# Altium schematic symbol library tm4cv006lib.SchLib: 203 symbols (part 2 of 5)
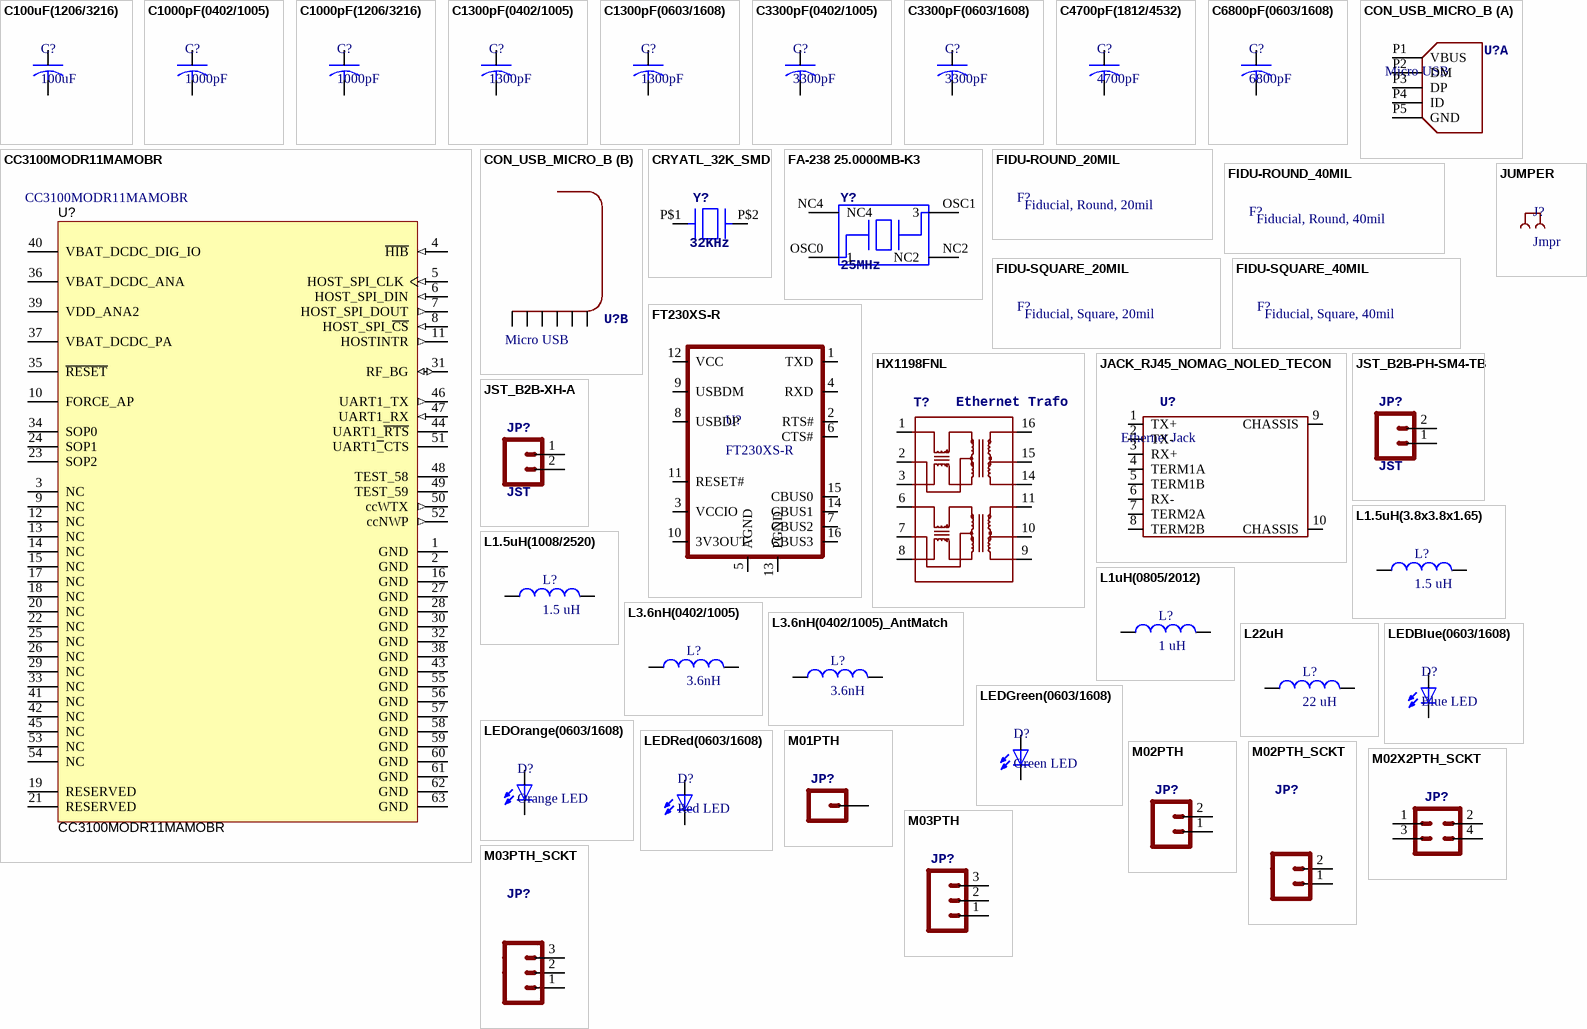
[diagram p6: symbols C100uF(1206/3216) to M03PTH_SCKT]

## C1000pF(1206/3216)
designator C?, comment 1000pF
1000pF Capacitor; Manufacturer: Johanson Dielectrics; Manufacturer Part Number: 202R18W102KV4E; Tolerance: 10 %; Type: High Voltage Capacitors; Voltage Rating DC: 2 kVDC; Class: 2; Dielectric: X7R; Supplier 1: Mouser; Supplier Part Number 1: 605-202R18W102KV4E; RoHS: RoHS Compliant; Category: Multilayer Ceramic Capacitors MLCC - SMD/SMT; Stock 1: 0; Pricing 1: 1=0.250, 10=0.088, 100=0.035, 1000=0.026, 3000=0.017, 9000=0.016, 24000=0.015, 99000=0.014 (USD); Capacitance: 1000 pF; Height: 1.27 mm; Length: 3.15 mm; Package / Case: 1206 (3216 metric); Packaging: Reel; Product: General Type MLCCs; Series: R18 High Voltage; Termination Style: SMD/SMT; Width: 1.6 mm; Brand: Johanson Dielectrics; Case Code - in: 1206; Case Code - mm: 3216; Maximum Operating Temperature: + 125 C; Minimum Operating Temperature: - 55 C; Standard Pack Qty: 3000; RoHS - Mouser: Y; Minimum Order Quantity: 1; Reeling: True; ComponentLink1URL: http://www.mouser.com/ds/2/611/JDI-High-Voltage-SMT-515373.pdf; ComponentLink1Description: http://www.mouser.com/ds/2/611/JDI-High-Voltage-SMT-515373.pdf
footprint C1206_3216 (Chip Capacitor, 2-Leads, Body 3.30x1.60mm, IPC Medium Density)
pins: 1, 2

## C1300pF(0402/1005)
designator C?, comment 1300pF
1300pF Capacitor; Manufacturer: Murata Electronics; Manufacturer Part Number: GRM1557U1A132JA01D; Tolerance: 5 %; Type: General Purpose MLCC; Voltage Rating DC: 10 VDC; Capacitance - nF: 1.3 nF; Capacitance - uF: 0.0013 uF; Dielectric: U2J; RoHS: RoHS Compliant; Category: Multilayer Ceramic Capacitors MLCC - SMD/SMT; Capacitance: 1300 pF; Height: 0.5 mm; Length: 1 mm; Package / Case: 0402 (1005 metric); Packaging: Reel; Product: General Type MLCCs; Series: GRM; Termination Style: SMD/SMT; Width: 0.5 mm; Brand: Murata Electronics; Case Code - in: 0402; Case Code - mm: 1005; Maximum Operating Temperature: + 125 C; Minimum Operating Temperature: - 55 C; Standard Pack Qty: 10000; RoHS - Mouser: Y; Minimum Order Quantity: 1; Reeling: True; ComponentLink1URL: http://www.mouser.com/ds/2/281/c02e-2905.pdf; ComponentLink1Description: http://www.mouser.com/ds/2/281/c02e-2905.pdf; Supplier 1: Mouser; Supplier Part Number 1: 81-GRM1557U1A132JA1D; Stock 1: 15573; Pricing 1: 1=0.170, 10=0.070, 100=0.048, 500=0.041, 1000=0.033, 2500=0.024, 10000=0.023, 20000=0.022, 50000=0.018 (USD)
footprint C0402_1005 (Chip Capacitor, 2-Leads, Body 1.00x0.50mm, IPC Medium Density)
pins: 1, 2

## C1300pF(0603/1608)
designator C?, comment 1300pF
1300pF Capacitor; Manufacturer: Murata Electronics; Manufacturer Part Number: GRM1885C1E132JA01D; Tolerance: 5 %; Type: General Purpose MLCC; Voltage Rating DC: 25 V; Dielectric: C0G (NP0); Supplier 1: Mouser; Supplier Part Number 1: 81-GRM1885C1E132JA1D; RoHS: RoHS Compliant; Category: Multilayer Ceramic Capacitors MLCC - SMD/SMT; Stock 1: 14377; Pricing 1: 1=0.120, 10=0.049, 100=0.029, 1000=0.024, 4000=0.019, 8000=0.016, 48000=0.012 (USD); Capacitance: 1300 pF; Height: 0.8 mm; Length: 1.6 mm; Package / Case: 0603 (1608 metric); Packaging: Reel; Product: General Type MLCCs; Series: GRM; Termination Style: SMD/SMT; Width: 0.8 mm; Brand: Murata Electronics; Case Code - in: 0603; Case Code - mm: 1608; Maximum Operating Temperature: + 125 C; Minimum Operating Temperature: - 55 C; Standard Pack Qty: 4000; RoHS - Mouser: Y; Minimum Order Quantity: 1; Reeling: True; ComponentLink1URL: http://www.murata.com/products/catalog/pdf/c02e.pdf; ComponentLink1Description: http://www.murata.com/products/catalog/pdf/c02e.pdf
footprint C0603_1608 (Chip Capacitor, 2-Leads, Body 1.60x0.80mm, IPC Medium Density)
pins: 1, 2

## C3300pF(0402/1005)
designator C?, comment 3300pF
3300pF Capacitor; Manufacturer: Murata Electronics; Manufacturer Part Number: GRM155R71H332KA01D; Tolerance: 10 %; Type: General Purpose MLCC; Voltage Rating DC: 50 VDC; Capacitance - nF: 3.3 nF; Capacitance - uF: 0.0033 uF; Dielectric: X7R; Qualification: Commercial; RoHS: RoHS Compliant; Category: Multilayer Ceramic Capacitors MLCC - SMD/SMT; Capacitance: 3300 pF; Height: 0.5 mm; Length: 1 mm; Package / Case: 0402 (1005 metric); Packaging: Reel; Product: General Type MLCCs; Series: GRM; Termination Style: SMD/SMT; Width: 0.5 mm; Brand: Murata Electronics; Case Code - in: 0402; Case Code - mm: 1005; Maximum Operating Temperature: + 125 C; Minimum Operating Temperature: - 55 C; Standard Pack Qty: 10000; RoHS - Mouser: Y; Minimum Order Quantity: 1; Reeling: True; ComponentLink1URL: http://www.mouser.com/ds/2/281/c02e-2905.pdf; ComponentLink1Description: http://www.mouser.com/ds/2/281/c02e-2905.pdf; Supplier 1: Mouser; Supplier Part Number 1: 81-GRM36X332K50; Stock 1: 236760; Pricing 1: 1=0.100, 10=0.005, 100=0.004, 500=0.003, 10000=0.003 (USD)
footprint C0402_1005 (Chip Capacitor, 2-Leads, Body 1.00x0.50mm, IPC Medium Density)
pins: 1, 2

## C3300pF(0603/1608)
designator C?, comment 3300pF
3300pF Capacitor; Manufacturer: Kemet; Manufacturer Part Number: C0603C332K5RACTU; Tolerance: 10 %; Type: SMD MLCC X7R 6.3 - 250 VDC Commerical Grade; Voltage Rating DC: 50 VDC; Class: Class 2; Dielectric: X7R; Supplier 1: Mouser; Supplier Part Number 1: 80-C0603C332K5R; RoHS: RoHS Compliant; Category: Multilayer Ceramic Capacitors MLCC - SMD/SMT; Stock 1: 45575; Pricing 1: 1=0.100, 10=0.018, 100=0.011, 1000=0.009, 4000=0.007, 8000=0.006, 48000=0.005 (USD); Capacitance: 3300 pF; Height: -; Length: 1.6 mm; Package / Case: 0603 (1608 metric); Packaging: Reel; Product: General Type MLCCs; Series: C0603C; Termination Style: SMD/SMT; Voltage Rating AC: -; Width: 0.8 mm; Brand: Kemet; Case Code - in: 0603; Case Code - mm: 1608; Maximum Operating Temperature: + 125 C; Minimum Operating Temperature: - 55 C; Product Category: 0603 SMD Ceramic Chip Capacitors; Standard Pack Qty: 4000; RoHS - Mouser: Y; Minimum Order Quantity: 1; Reeling: True; ComponentLink1URL: http://www.mouser.com/ds/2/212/KEM_C1002_X7R_SMD-357932.pdf; ComponentLink1Description: http://www.mouser.com/ds/2/212/KEM_C1002_X7R_SMD-357932.pdf
footprint C0603_1608 (Chip Capacitor, 2-Leads, Body 1.60x0.80mm, IPC Medium Density)
pins: 1, 2

## C4700pF(1812/4532)
designator C?, comment 4700pF
4700pF Capacitor; Manufacturer: Johanson Dielectrics; Manufacturer Part Number: 202S43W472KV4E; Tolerance: 10 %; Type: High Voltage Capacitors; Voltage Rating DC: 2 kVDC; Dielectric: X7R; Supplier 1: Mouser; Supplier Part Number 1: 605-202S43W472KV4E; RoHS: RoHS Compliant; Category: Multilayer Ceramic Capacitors MLCC - SMD/SMT; Stock 1: 10666; Pricing 1: 1=0.810, 10=0.492, 100=0.307, 1000=0.246, 2000=0.143, 10000=0.141, 24000=0.138, 50000=0.133 (USD); Capacitance: 4700 pF; Height: 2.286 mm; Length: 4.42 mm; Package / Case: 1812 (4532 metric); Packaging: Reel; Product: General Type MLCCs; Series: S43 High Voltage; Termination Style: SMD/SMT; Width: 3.175 mm; Brand: Johanson Dielectrics; Case Code - in: 1812; Case Code - mm: 4532; Maximum Operating Temperature: + 125 C; Minimum Operating Temperature: - 55 C; Standard Pack Qty: 1000; RoHS - Mouser: Y; Minimum Order Quantity: 1; Reeling: True; ComponentLink1URL: http://www.mouser.com/ds/2/611/JDI-High-Voltage-SMT-515373.pdf; ComponentLink1Description: http://www.mouser.com/ds/2/611/JDI-High-Voltage-SMT-515373.pdf
footprint C1812_4532 (Chip Capacitor, 2-Leads, Body 4.50x3.17mm, IPC Medium Density)
pins: 1, 2

## C6800pF(0603/1608)
designator C?, comment 6800pF
6800pF Capacitor; Manufacturer: Kemet; Manufacturer Part Number: C0603C682K5RACTU; Tolerance: 10 %; Type: SMD MLCC X7R 6.3 - 250 VDC Commerical Grade; Voltage Rating DC: 50 VDC; Class: Class 2; Dielectric: X7R; Supplier 1: Mouser; Supplier Part Number 1: 80-C0603C682K5R; RoHS: RoHS Compliant; Category: Multilayer Ceramic Capacitors MLCC - SMD/SMT; Stock 1: 36563; Pricing 1: 1=0.100, 10=0.020, 100=0.012, 1000=0.009, 4000=0.007, 8000=0.006, 48000=0.005 (USD); Capacitance: 6800 pF; Height: -; Length: 1.6 mm; Package / Case: 0603 (1608 metric); Packaging: Reel; Product: General Type MLCCs; Series: C0603C; Termination Style: SMD/SMT; Voltage Rating AC: -; Width: 0.8 mm; Brand: Kemet; Case Code - in: 0603; Case Code - mm: 1608; Maximum Operating Temperature: + 125 C; Minimum Operating Temperature: - 55 C; Product Category: 0603 SMD Ceramic Chip Capacitors; Standard Pack Qty: 4000; RoHS - Mouser: Y; Minimum Order Quantity: 1; Reeling: True; ComponentLink1URL: http://www.mouser.com/ds/2/212/KEM_C1002_X7R_SMD-357932.pdf; ComponentLink1Description: http://www.mouser.com/ds/2/212/KEM_C1002_X7R_SMD-357932.pdf
footprint C0603_1608 (Chip Capacitor, 2-Leads, Body 1.60x0.80mm, IPC Medium Density)
pins: 1, 2

## CC3100MODR11MAMOBR
designator U?
WiFi Module; Manufacturer: Texas Instruments; Product Status: New Product; Supplier 1: Mouser; Supplier Part Number 1: 595-3100MODR11MAMOBR; RoHS: RoHS Compliant; Category: WiFi / 802.11 Modules; Stock 1: 1083; Pricing 1: 1=20.97, 10=19.28, 25=18.28, 50=17.78, 100=16.18, 250=15.40, 500=14.42, 1000=12.61 (USD); Packaging: Reel; Series: CC3100MOD; Brand: Texas Instruments; Tradename: SimpleLink; RoHS - Mouser: Y; Minimum Order Quantity: 1; Reeling: True; ComponentLink1URL: http://www.mouser.com/ds/2/405/cc3100mod-555692.pdf; ComponentLink1Description: http://www.mouser.com/ds/2/405/cc3100mod-555692.pdf; Manufacturer Part Number: CC3100MODR11MAMOBR
footprint MOB0063A
pins: 1 GND (power), 2 GND (power), 3 NC, 4 ~{HIB} (in), 5 HOST_SPI_CLK (in), 6 HOST_SPI_DIN (in), 7 HOST_SPI_DOUT (out), 8 HOST_SPI_~{CS} (in), 9 NC, 10 FORCE_AP, 11 HOSTINTR (out), 12 NC, 13 NC, 14 NC, 15 NC, 16 GND (power), 17 NC, 18 NC, 19 RESERVED, 20 NC, 21 RESERVED, 22 NC, 23 SOP2, 24 SOP1, 25 NC, 26 NC, 27 GND (power), 28 GND (power), 29 NC, 30 GND (power), 31 RF_BG (io), 32 GND (power), 33 NC, 34 SOP0, 35 ~{RESET}, 36 VBAT_DCDC_ANA (power), 37 VBAT_DCDC_PA (power), 38 GND (power), 39 VDD_ANA2 (power), 40 VBAT_DCDC_DIG_IO (power), 41 NC, 42 NC, 43 GND (power), 44 UART1_~{RTS}, 45 NC, 46 UART1_TX (out), 47 UART1_RX (in), 48 TEST_58, 49 TEST_59, 50 ccWTX (out), 51 UART1~{_}CTS, 52 ccNWP (out), 53 NC, 54 NC, 55 GND (power), 56 GND (power), 57 GND (power), 58 GND (power), 59 GND (power), 60 GND (power), 61 GND (power), 62 GND (power), 63 GND (power)

## CON_USB_MICRO_B
designator U?, comment Micro USB
Manufacturer: FCI; Manufacturer Part Number: 10118194-0001LF; Connector Type: Micro USB Type B receptacle; Current Rating: 1.8 A; Gender: Female; Mounting Angle: Right; Number of Contacts: 5 Contact; Insulation Resistance: 1000 MOhms; Supplier 1: Mouser; Supplier Part Number 1: 649-10118194-0001LF; RoHS: RoHS Compliant; Category: USB Connectors; Stock 1: 38053; Pricing 1: 1=0.460, 10=0.316, 100=0.273, 500=0.260, 1200=0.197, 2400=0.180, 4800=0.158, 9600=0.152, 24000=0.147 (USD); Color: Black; Contact Plating: Gold; Operating Temperature Range: - 55 C to + 85 C; Packaging: Reel; Product: Micro USB Type B Connectors; Termination Style: SMD/SMT; Brand: FCI; Contact Material: Copper Alloy; Flammability Rating: UL 94 V-0; Standard: USB 2.0; Standard Pack Qty: 1200; RoHS - Mouser: Y; Minimum Order Quantity: 1; Reeling: True; ComponentLink1URL: http://www.mouser.com/ds/2/154/10118194AC-197217.pdf; ComponentLink1Description: http://www.mouser.com/ds/2/154/10118194AC-197217.pdf
footprint FRAMATOME_10118194-0001LF
part A pins: P1 VBUS, P2 DM, P3 DP, P4 ID, P5 GND
part B pins: P6 S1, P7 S2, P8 S3, P9 S4, P10 S5, P11 S6

## CRYATL_32K_SMD
designator Y?, comment 32KHz
Crystal, 32.768KHz; Manufacturer: Citizen Finedevice Co Ltd; Manufacturer Part Number: CMR200T32768DZYT; Frequency Tolerance: ±20ppm; Load Capacitance: 7pF; ESR (Equivalent Series Resistance): 50 kOhm; Operating Mode: Fundamental; Supplier 1: Digi-Key; Supplier Part Number 1: 300-8736-1-ND; RoHS: RoHS Compliant; Category: Crystals, Oscillators, Resonators; Stock 1: 36612; Pricing 1: 1=0.59, 10=0.495, 50=0.4456, 100=0.396, 500=0.3762, 1000=0.3168 (USD); Packaging: Cut Tape (CT); Part Status: Active; Type: kHz Crystal (Tuning Fork); Frequency: 32.768kHz; Frequency Stability: -; Operating Temperature: -40°C ~ 85°C; Ratings: -; Mounting Type: Surface Mount; Package / Case: Cylindrical Can, Radial; Size / Dimension: 0.079" Dia x 0.236" L (2.00mm x 6.00mm); Height - Seated (Max): 0.079" (2.00mm); ComponentLink1URL: http://cfd.citizen.co.jp/english/prod-tech/product/pdf/datasheet_TF/CMR200T_E.pdf; ComponentLink1Description: http://cfd.citizen.co.jp/english/prod-tech/product/pdf/datasheet_TF/CMR200T_E.pdf
footprint CRYSTAL_32K_SMD
pins: P$1, P$2

## FA-238 25.0000MB-K3
designator Y?, comment 25MHz
Crystal, 25 MHz; Manufacturer: Epson; Manufacturer Part Number: FA-23825.0000MB-K3; Frequency: 25; Frequency Tolerance: 50; Load Capacitance: 10; Frequency Stability: 30; Operating Mode: Fundamental; Supplier 1: Mouser; Supplier Part Number 1: 732-FA238-25B-K3; Stock 1: 153; Pricing 1: 1=0.39, 10=0.293, 100=0.26, 250=0.247, 500=0.228, 1000=0.208, 2000=0.195, 5000=0.188, 10000=0.182 (USD); Case/Package: DFN; Weight: 0.000564; Min Operating Temperature: -20; Max Operating Temperature: 70; ESR (Equivalent Series Resistance): 50; Packaging: Tape and Reel; Package Quantity: 250; Tolerance: 50; Termination: SMD; Length: 0.126; Height: 0.028; Width: 0.098; Lead Free: Lead Free; ComponentLink1URL: http://www.mouser.com/ds/2/137/A-238_en-932914.pdf; ComponentLink1Description: http://www.mouser.com/ds/2/137/A-238_en-932914.pdf; ComponentLink2URL: https://support.epson.biz/td/api/doc_check.php?dl=brief_FA-238V_en.pdf; ComponentLink2Description: https://support.epson.biz/td/api/doc_check.php?dl=brief_FA-238V_en.pdf; Supplier 2: Digi-Key; Supplier Part Number 2: SER3692CT-ND; RoHS: RoHS Compliant; Category: Crystals, Oscillators, Resonators; Stock 2: 13255; Pricing 2: 1=0.43, 10=0.358, 50=0.3218, 100=0.286 (USD); Part Status: Active; Type: MHz Crystal; Operating Temperature: -20°C ~ 70°C; Ratings: -; Mounting Type: Surface Mount; Package / Case: 4-SMD, No Lead; Size / Dimension: 0.126" L x 0.098" W (3.20mm x 2.50mm); Height - Seated (Max): 0.028" (0.70mm)
footprint FA-238 25.0000MB-K3
pins: NC2, NC4, OSC0 1, OSC1 3

## FIDU-ROUND_20MIL
designator F?, comment Fiducial, Round, 20mil  (value not drawn)  (no BOM)
footprint FIDU_ROUND_20mil

## FIDU-ROUND_40MIL
designator F?, comment Fiducial, Round, 40mil  (value not drawn)  (no BOM)
footprint FIDU_ROUND_40mil

## FIDU-SQUARE_20MIL
designator F?, comment Fiducial, Square, 20mil  (value not drawn)  (no BOM)
footprint FIDU_SQUARE_20MIL

## FIDU-SQUARE_40MIL
designator F?, comment Fiducial, Square, 40mil  (value not drawn)  (no BOM)
footprint FIDU_SQUARE_40MIL

## FT230XS-R
designator U?
USB to Serial Bridge; Manufacturer: FTDI; Data Rate: 480 Mb/s, 12 Mb/s; Speed: High-Speed; Interface Type: UART, USB; Operating Supply Current: 6.5 mA to 8.3 mA; Operating Supply Voltage: 2.97 V to 5.5 V; Supplier 1: Mouser; Supplier Part Number 1: 895-FT230XS-R; Manufacturer Part Number: FT230XS-R; RoHS: RoHS Compliant; Category: USB Interface IC; Stock 1: 126323; Pricing 1: 1=2.04, 25=1.90, 100=1.54, 250=1.46, 500=1.40, 3000=1.39 (USD); Package / Case: SSOP-16; Packaging: Reel; Product: USB Bridge Controllers; Series: FT230; Type: Bridge, USB to UART; Brand: FTDI; Mounting Style: SMD/SMT; Maximum Operating Temperature: + 85 C; Standard: USB 2.0; Standard Pack Qty: 3000; Tradename: X-CHIP; RoHS - Mouser: Y; Minimum Order Quantity: 1; Reeling: True; ComponentLink1URL: http://www.mouser.com/ds/2/163/DS_FT230X-5395.pdf; ComponentLink1Description: http://www.mouser.com/ds/2/163/DS_FT230X-5395.pdf
footprint FT230XS-R (SOP, 16-Leads, Body 4.90x3.90mm, Pitch 0.64mm, IPC Medium Density)
pins: 1 TXD, 2 RTS#, 3 VCCIO, 4 RXD, 5 AGND, 6 CTS#, 7 CBUS2, 8 USBDP, 9 USBDM, 10 3V3OUT, 11 RESET#, 12 VCC, 13 PGND, 14 CBUS1, 15 CBUS0, 16 CBUS3

## HX1198FNL
designator T?, comment Ethernet Trafo
Manufacturer: Pulse; Manufacturer Part Number: HX1198FNL; Frequency Range: 100 kHz to 100 MHz; Isolation Voltage: 1.5 kV; Type: 100 Base TX Single Port Surface Mount Magnetics; Supplier 1: Mouser; Supplier Part Number 1: 673-HX1198FNL; RoHS: RoHS Compliant; Category: Transformers Audio & Signal; Stock 1: 772; Pricing 1: 1=4.76, 10=3.86, 25=3.09, 50=2.92, 100=2.79, 250=2.71, 500=2.63, 1000=2.55, 2500=2.33 (USD); Height: 6 mm; Length: 12.7 mm; Operating Temperature Range: - 40 C to + 85 C; Package / Case: SMT; Packaging: Bulk; Product: 100 Base TX Single Port Surface Mount Magnetics; Termination Style: SMD/SMT; Width: 9.53 mm; Brand: Pulse; Product Category: Transformers; Standard Pack Qty: 40; RoHS - Mouser: Y; Minimum Order Quantity: 1; Reeling: False; ComponentLink1URL: http://www.mouser.com/ds/2/336/H329-262036.pdf; ComponentLink1Description: http://www.mouser.com/ds/2/336/H329-262036.pdf
footprint HX1198FNL
pins: 1, 2, 3, 6, 7, 8, 9, 10, 11, 14, 15, 16

## JACK_RJ45_NOMAG_NOLED_TECON
designator U?, comment Ethernet Jack
Manufacturer: TE Connectivity / AMP; Manufacturer Part Number: 1-406541-5; Mounting Angle: Right; Number of Positions: 8 Position; Shielding: Shielded; Number of Ports: 1; Performance Category: Cat 5; USOC Codes: RJ45; Supplier 1: Mouser; Supplier Part Number 1: 571-1-406541-5; RoHS: RoHS Compliant; Category: Modular Connectors / Ethernet Connectors; Stock 1: 3759; Pricing 1: 1=2.36, 25=2.12, 50=2.00, 100=1.93, 500=1.76, 1000=1.51, 2500=1.40 (USD); Color: Black; Contact Plating: Gold; Housing Material: Thermoplastic; Packaging: Tray; Product: Modular Jacks; Termination Style: Through Hole; Brand: TE Connectivity / AMP; Contact Material: Phosphor Bronze; Flammability Rating: UL 94 V-0; Product Category: Modular Jacks; Standard Pack Qty: 441; RoHS - Mouser: Y; Minimum Order Quantity: 1; Reeling: False; ComponentLink1URL: http://www.mouser.com/ds/2/418/NG_CD_406541_N-680740.pdf; ComponentLink1Description: http://www.mouser.com/ds/2/418/NG_CD_406541_N-680740.pdf
footprint RJ45_TE_CON_NOMAG_NOLED
pins: 1 TX+, 2 TX-, 3 RX+, 4 TERM1A, 5 TERM1B, 6 RX-, 7 TERM2A, 8 TERM2B, 9 CHASSIS, 10 CHASSIS

## JST_B2B-PH-SM4-TB
designator JP?, comment JST
JST LiPo Battery Connector; Manufacturer_Part_Number: B2B-PH-SM4-TBT(LF)(SN); Manufacturer: JST Sales America Inc.; Vendor: DigiKey; Connector Type: Header, Shrouded; Number of Positions: 2; Number of Positions Loaded: All; Pitch: 0.079" (2.00mm); ComponentLink1URL: http://www.jst-mfg.com/product/pdf/eng/ePH.pdf; ComponentLink1Description: Datasheet for B2B-PH-SM4-TBT(LF)(SN); Manufacturer_Name: JST; VendorLink1URL: http://www.digikey.com/product-detail/en/B2B-PH-SM4-TBT%28LF%29%28SN%29/455-2872-1-ND/3906722; Supplier 1: Digi-Key; Supplier Part Number 1: 455-2872-1-ND; Manufacturer Part Number: B2B-PH-SM4-TBT(LF)(SN); RoHS: RoHS Compliant; Category: Connectors, Interconnects; Stock 1: 17948; Pricing 1: 1=0.78, 10=0.731, 25=0.6584, 50=0.5852, 100=0.5608, 250=0.512, 500=0.48764 (USD); Packaging: Cut Tape (CT); Contact Type: Male Pin; Number of Rows: 1; Row Spacing: -; Contact Mating Length: 0.130" (3.30mm); Mounting Type: Surface Mount; Termination: Solder; Fastening Type: Detent Lock; Features: Solder Retention; Contact Finish: Tin; Contact Finish Thickness: -; Color: Natural
footprint JST_B2B-PH-SM4-TB (JST LiPo Battery Connector)
pins: 1, 2

## JST_B2B-XH-A
designator JP?, comment JST
JST LiPo Battery Connector (ACTUAL); Manufacturer: JST Sales America Inc.; Manufacturer Part Number: B2B-XH-A(LF)(SN); Connector Type: Header, Shrouded; Number of Positions: 2; Number of Positions Loaded: All; Pitch: 0.098" (2.50mm); RoHS: RoHS Compliant; Category: Connectors, Interconnects; Packaging: Bulk; Part Status: Active; Contact Type: Male Pin; Number of Rows: 1; Row Spacing: -; Contact Mating Length: -; Mounting Type: Through Hole; Termination: Press-Fit; Fastening Type: Detent Lock; Features: -; Contact Finish: Tin; Contact Finish Thickness: -; Color: Natural; ComponentLink1URL: http://www.jst-mfg.com/product/pdf/eng/eXH.pdf; ComponentLink1Description: http://www.jst-mfg.com/product/pdf/eng/eXH.pdf; Supplier 1: Digi-Key; Supplier Part Number 1: 455-2247-ND; Stock 1: 203622; Pricing 1: 1=0.15, 10=0.141, 100=0.0868, 500=0.07182, 1000=0.06284, 5000=0.05387, 10000=0.05237 (USD)
footprint JST_B2B-XH-A (JST BTB Socket)
pins: 1, 2

## JUMPER
designator J?, comment Jmpr
footprint JUMP

## L1.5uH(3.8x3.8x1.65)
designator L?, comment 1.5 uH
1.5uH Inductor; Manufacturer: Wurth Electronics; Manufacturer Part Number: 744031001; Maximum DC Current: 1.75 A; Maximum DC Resistance: 47 mOhms; Self Resonant Frequency: 125 MHz; Shielding: Shielded; Tolerance: 30 %; Type: SMD Shielded Tiny Power Inductor; Test Frequency: 100 kHz; Supplier 1: Mouser; Supplier Part Number 1: 710-744031001; RoHS: RoHS Compliant; Category: Fixed Inductors; Stock 1: 1968; Pricing 1: 1=1.43, 10=1.38, 50=1.21, 100=1.11, 500=1.04, 1000=0.937, 2000=0.788 (USD); Height: 1.65 mm; Inductance: 1.5 uH; Length: 3.8 mm; Operating Temperature Range: - 40 C to + 125 C; Packaging: Reel; Product: Power Inductors; Series: WE-TPC; Termination Style: SMD/SMT; Width: 3.8 mm; Brand: Wurth Electronics; Mounting Style: SMD/SMT; Standard Pack Qty: 1000; RoHS - Mouser: Y; Minimum Order Quantity: 1; Reeling: True; ComponentLink1URL: http://www.mouser.com/ds/2/445/744031001-538264.pdf; ComponentLink1Description: http://www.mouser.com/ds/2/445/744031001-538264.pdf
footprint 744031001 (1.5uH Precision Wire Wound Inductor, 2-Leads, Body 3.80x3.80mm, IPC Medium Density)
pins: 1, 2

## L1.5uH(1008/2520)
designator L?, comment 1.5 uH
1.5uH Inductor; Manufacturer: Murata Electronics; Manufacturer Part Number: LQM2HPN1R5MG0L; Maximum DC Current: 1.5 A; Maximum DC Resistance: 70 mOhms; Self Resonant Frequency: 50 MHz; Shielding: Shielded; Tolerance: 20 %; Test Frequency: 1 MHz; Supplier 1: Mouser; Supplier Part Number 1: 81-LQM2HPN1R5MG0L; RoHS: RoHS Compliant; Category: Fixed Inductors; Stock 1: 9497; Pricing 1: 1=0.340, 10=0.239, 100=0.178, 1000=0.157, 3000=0.110, 9000=0.106, 24000=0.103, 45000=0.099, 99000=0.097 (USD); Height: 1.2 mm; Inductance: 1.5 uH; Length: 2.5 mm; Operating Temperature Range: - 55 C to + 125 C; Package / Case: 1008 (2520 metric); Packaging: Reel; Product: Power Inductors; Series: LQM; Termination Style: SMD/SMT; Width: 2 mm; Brand: Murata Electronics; Mounting Style: SMD/SMT; Product Category: SMD Chip Inductors; Standard Pack Qty: 3000; RoHS - Mouser: Y; Minimum Order Quantity: 1; Reeling: True; ComponentLink1URL: http://www.mouser.com/ds/2/281/o05e-522697.pdf; ComponentLink1Description: http://www.mouser.com/ds/2/281/o05e-522697.pdf
footprint L1008_2520 (Chip Inductor, 2-Leads, Body 2.50x2.00mm, IPC Medium Density)
pins: 1, 2

## L1uH(0805/2012)
designator L?, comment 1 uH
1uH Inductor; Manufacturer: Murata Electronics; Manufacturer Part Number: LQM21PN1R0NGRD; Maximum DC Current: 1.3 A; Maximum DC Resistance: 66 mOhms; Self Resonant Frequency: 50 MHz; RoHS: RoHS Compliant; Category: Fixed Inductors; Height: 0.9 mm; Inductance: 1 uH; Length: 2 mm; Operating Temperature Range: - 55 C to + 125 C; Package / Case: 0805 (2012 metric); Packaging: Reel; Product: Power Inductors; Series: LQM21P; Termination Style: SMD/SMT; Width: 1.25 mm; Brand: Murata Electronics; Mounting Style: SMD/SMT; Standard Pack Qty: 4000; RoHS - Mouser: Y; Minimum Order Quantity: 1; Reeling: True; ComponentLink1URL: http://www.mouser.com/ds/2/281/o05e-522697.pdf; ComponentLink1Description: http://www.mouser.com/ds/2/281/o05e-522697.pdf; Supplier 1: Mouser; Supplier Part Number 1: 81-LQM21PN1R0NGRDRD; Stock 1: 3055; Pricing 1: 1=0.120, 1000=0.105, 4000=0.094 (USD)
footprint L0805_2012 (Chip Inductor, 2-Leads, Body 2.00x1.25mm, IPC Medium Density)
pins: 1, 2

## L3.6nH(0402/1005)
designator L?, comment 3.6nH
3.6nH Inductor; Manufacturer: Murata Electronics; Manufacturer Part Number: LQG15HS3N6S02D; Maximum DC Current: 300 mA; Maximum DC Resistance: 180 mOhms; Q Minimum: 8; Self Resonant Frequency: 6000 MHz; Tolerance: 0.3 nH; Supplier 1: Mouser; Supplier Part Number 1: 81-LQG15HS3N6S02D; RoHS: RoHS Compliant; Category: Fixed Inductors; Stock 1: 25160; Pricing 1: 1=0.100, 10=0.046, 100=0.034, 1000=0.031, 2500=0.020, 10000=0.019, 50000=0.018, 100000=0.017 (USD); Height: 0.5 mm; Inductance: 3.6 nH; Length: 1 mm; Operating Temperature Range: - 55 C to + 125 C; Package / Case: 0402 (1005 metric); Packaging: Reel; Product: RF Inductors; Series: LQG; Termination Style: SMD/SMT; Width: 0.5 mm; Brand: Murata Electronics; Mounting Style: SMD/SMT; Standard Pack Qty: 10000; RoHS - Mouser: Y; Minimum Order Quantity: 1; Reeling: True; ComponentLink1URL: http://www.mouser.com/ds/2/281/o05e-522697.pdf; ComponentLink1Description: http://www.mouser.com/ds/2/281/o05e-522697.pdf
footprint L0402_1005 (Chip Inductor, 2-Leads, Body 1.00x0.50mm, IPC Medium Density)
pins: 1, 2

## L3.6nH(0402/1005)_AntMatch
designator L?, comment 3.6nH
3.6nH Inductor; Manufacturer: Murata Electronics; Manufacturer Part Number: LQP15MN3N6B02D; Maximum DC Current: 170 mA; Maximum DC Resistance: 500 mOhms; Q Minimum: 13; Self Resonant Frequency: 6000 MHz; Tolerance: 0.1 nH; Type: Film Type Chip Inductors (Chip Coils); Qualification: Commercial; Test Frequency: 500 MHz; RoHS: RoHS Compliant; Category: Fixed Inductors; Height: 0.35 mm; Inductance: 3.6 nH; Length: 1 mm; Package / Case: 0402 (1005 metric); Packaging: Reel; Product: RF Inductors; Series: LQP15M; Termination Style: SMD/SMT; Width: 0.5 mm; Brand: Murata Electronics; Mounting Style: SMD/SMT; Standard Pack Qty: 10000; RoHS - Mouser: Y; Minimum Order Quantity: 1; Reeling: True; ComponentLink1URL: http://www.mouser.com/ds/2/281/o05e-522697.pdf; ComponentLink1Description: http://www.mouser.com/ds/2/281/o05e-522697.pdf; Supplier 1: Mouser; Supplier Part Number 1: 81-LQP15MN3N6B02D; Stock 1: 17361; Pricing 1: 1=0.180, 10=0.139, 100=0.109, 500=0.095, 1000=0.087, 2500=0.057, 10000=0.053, 20000=0.052, 50000=0.049 (USD)
footprint L0402_1005_AntMatch_Fixed (Chip Inductor, 2-Leads, Body 1.00x0.50mm, IPC Medium Density)
pins: 1, 2

## L22uH
designator L?, comment 22 uH
22uH Inductor; Manufacturer: Murata - TOKO; Manufacturer Part Number: 1255AY-220M=P3; Core Material: Ferrite; Maximum DC Current: 2 A; Maximum DC Resistance: 117.6 mOhms; Shielding: Shielded; Tolerance: 20 %; Type: Ferrite Inductor; Test Frequency: 100 kHz; Product Status: New Product; Supplier 1: Mouser; RoHS: RoHS Compliant; Category: Fixed Inductors; Stock 1: 1003; Pricing 1: 1=0.470, 10=0.342, 100=0.242, 1500=0.179, 3000=0.163, 9000=0.158, 24000=0.153, 49500=0.147 (USD); Height: 4.5 mm; Inductance: 22 uH; Length: 6.3 mm; Packaging: Reel; Product: Inductors; Series: DG6045C; Termination Style: SMD/SMT; Width: 6.3 mm; Brand: Murata - TOKO; Mounting Style: SMD/SMT; RoHS - Mouser: Y; Minimum Order Quantity: 1; Reeling: True; ComponentLink1URL: http://www.mouser.com/ds/2/281/m_dg6045c-610991.pdf; ComponentLink1Description: http://www.mouser.com/ds/2/281/m_dg6045c-610991.pdf; Supplier Part Number 1: 81-1255AY-220MP3
footprint 1255AY-220M=P3 (22uH Inductor, Precision Wire Wound Inductor, 2-Leads, Body 6.30x6.30mm, IPC Medium Density)
pins: 1, 2

## LEDBlue(0603/1608)
designator D?, comment Blue LED
Manufacturer: OSRAM Opto Semiconductors; Manufacturer Part Number: LB Q39E-L2OO-35-1; Type: Chip LED; Wavelength: 470 nm; LED Size: 1.6 mm x 0.8 mm x 0.3 mm; Lens Shape: Rectangular; Luminous Intensity: 45 mcd; Peak Wavelength: 472 nm; Viewing Angle: 155 deg; If - Forward Current: 5 mA; Vf - Forward Voltage: 2.85 V; Supplier 1: Mouser; Supplier Part Number 1: 720-LBQ39EL2N2351; RoHS: RoHS Compliant; Category: Standard LEDs - SMD; Stock 1: 3810; Pricing 1: 1=0.320, 10=0.256, 25=0.209, 100=0.166, 250=0.142, 500=0.123, 1000=0.095, 2000=0.079, 4000=0.079 (USD); Height: 0.3 mm; Illumination Color: Blue; Length: 1.6 mm; Package / Case: 0603 (1608 metric); Packaging: Reel; Series: CHIPLED 0603; Width: 0.8 mm; Brand: OSRAM Opto Semiconductors; Mounting Style: SMD/SMT; Color Temperature: -; Maximum Operating Temperature: + 85 C; Minimum Operating Temperature: - 40 C; Standard Pack Qty: 4000; Wavelength/Color Temperature: 470 nm; RoHS - Mouser: Y; Minimum Order Quantity: 1; Reeling: True; ComponentLink1URL: http://www.mouser.com/ds/2/311/LB Q39E - CHIPLED 0603-1074830.pdf; ComponentLink1Description: http://www.mouser.com/ds/2/311/LB Q39E - CHIPLED 0603-1074830.pdf; Supplier 2: Digi-Key; Supplier Part Number 2: LB Q39E-L2OO-35-1-ND; Supplier 3: Digi-Key; Supplier Part Number 3: 475-2815-1-ND; Supplier 4: Mouser; Supplier Part Number 4: 720-LBQ39EN1P1351; Supplier 5: Digi-Key; Supplier Part Number 5: 475-2816-1-ND
footprint LED0603_Blue (Molded Diode, 2-Leads, Body 1.60x0.80mm, IPC Medium Density)
pins: A, C

## LEDGreen(0603/1608)
designator D?, comment Green LED
Manufacturer: Lumex; Manufacturer Part Number: SML-LXFP0603SUGCTR; Luminous Intensity: 20; Viewing Angle: 130; Nominal Vf: 2; Lens Style: Clear; Supplier 1: Mouser; Supplier Part Number 1: 696-SMLLXFP0603SUGCT; Stock 1: 2420; Pricing 1: 1=0.17, 10=0.15, 50=0.15, 100=0.12, 1000=0.1, 10000=0.076 (USD); Mount: Surface Mount; Case/Package: 0603; Case Code (Metric): 1608; Case Code (Imperial): 0603; Min Operating Temperature: -40; Max Operating Temperature: 85; Illumination Colour: Green; Packaging: Tape and Reel; Package Quantity: 3000; Colour: Green; Length: 1.6; Height: 0.2; Width: 0.8; ComponentLink1URL: https://datasheet.ciiva.com/24152/sml-lxfp0603sugctr-272463-24152468.pdf; ComponentLink1Description: https://datasheet.ciiva.com/24152/sml-lxfp0603sugctr-272463-24152468.pdf; ComponentLink2URL: https://datasheet.ciiva.com/29559/sml-lxfp0603sugctr-29559740.pdf; ComponentLink2Description: https://datasheet.ciiva.com/29559/sml-lxfp0603sugctr-29559740.pdf; Supplier 2: Digi-Key; Supplier Part Number 2: 67-2222-1-ND
footprint LED0603_Green (Molded Diode, 2-Leads, Body 1.60x0.80mm, IPC Medium Density)
pins: A, C

## LEDOrange(0603/1608)
designator D?, comment Orange LED
Manufacturer: Osram / OSRAM Opto Semiconductors; Manufacturer Part Number: LOQ976-PS-25; Forward Current: 25; Forward Voltage: 2.5; Luminous Intensity: 280; Viewing Angle: 160; Lens Style: Diffused; Nominal Vf: 2; Supplier 1: Mouser; Supplier Part Number 1: 720-LOQ976-PS-25; Stock 1: 34674; Pricing 1: 1=0.1, 10=0.072, 25=0.064, 100=0.057, 250=0.05, 500=0.046, 1000=0.043, 2500=0.038, 4000=0.036 (USD); Mount: Surface Mount; Case/Package: 0603; Pins: 2; Case Code (Metric): 1608; Case Code (Imperial): 0603; Min Operating Temperature: -30; Max Operating Temperature: 85; Package Quantity: 16000; Illumination Colour: Orange; Packaging: Tape and Reel; Colour: Orange; Length: 1.6; Height: 0.8; Width: 0.8; Radiation Hardening: No; ComponentLink1URL: https://datasheet.ciiva.com/4688/loq976-chipled0603-473975-4688629.pdf; ComponentLink1Description: https://datasheet.ciiva.com/4688/loq976-chipled0603-473975-4688629.pdf; ComponentLink2URL: https://datasheet.ciiva.com/2119/00085896-0-2119260.pdf; ComponentLink2Description: https://datasheet.ciiva.com/2119/00085896-0-2119260.pdf; ComponentLink3URL: https://datasheet.ciiva.com/2119/00085896-0-2119261.pdf; ComponentLink3Description: https://datasheet.ciiva.com/2119/00085896-0-2119261.pdf; ComponentLink4URL: https://datasheet.ciiva.com/2119/00085896-0-2119262.pdf; ComponentLink4Description: https://datasheet.ciiva.com/2119/00085896-0-2119262.pdf
footprint LED0603_Orange (Molded Diode, 2-Leads, Body 1.60x0.80mm, IPC Medium Density)
pins: A, C

## LEDRed(0603/1608)
designator D?, comment Red LED
Manufacturer: Lumex; Manufacturer Part Number: SML-LXFP0603SIC-TR; Nominal Vf: 2; Viewing Angle: 130; Lens Style: Clear; Luminous Intensity: 45; Supplier 1: Mouser; Supplier Part Number 1: 696-SMLLXFP0603SICTR; Stock 1: 1481; Pricing 1: 1=0.17, 10=0.15, 50=0.15, 100=0.12, 1000=0.1, 10000=0.076 (USD); Mount: Surface Mount; Case/Package: 0603; Case Code (Metric): 1608; Case Code (Imperial): 0603; Min Operating Temperature: -40; Max Operating Temperature: 85; Colour: Red; Package Quantity: 1; Packaging: Cut Tape; Illumination Colour: Red; Length: 1.6; Height: 0.2; Width: 0.8; ComponentLink1URL: https://datasheet.ciiva.com/29559/sml-lxfp0603sic-tr-29559744.pdf; ComponentLink1Description: https://datasheet.ciiva.com/29559/sml-lxfp0603sic-tr-29559744.pdf; ComponentLink2URL: https://datasheet.ciiva.com/24152/sml-lxfp0603sic-tr-272459-24152422.pdf; ComponentLink2Description: https://datasheet.ciiva.com/24152/sml-lxfp0603sic-tr-272459-24152422.pdf
footprint LED0603_Red (Molded Diode, 2-Leads, Body 1.60x0.80mm, IPC Medium Density)
pins: A, C

## M01PTH
designator JP?, comment 1x1 Hdr  (value not drawn)
1 Pin Header
footprint 1X01
pins: 1

## M02PTH
designator JP?, comment Header  (value not drawn)
2 Pin Header; Manufacturer: Wurth Electronics Inc.; Manufacturer Part Number: 61300211121; Pitch - Mating: 0.100" (2.54mm); Style: Board to Board or Cable; Shrouding: Unshrouded; Number of Positions: 2; Number of Positions Loaded: All; Contact Length - Mating: 0.236" (6.00mm); Contact Length - Post: 0.118" (3.00mm); Overall Contact Length: 0.454" (11.54mm); Material Flammability Rating: UL94 V-0; Current Rating: 3A; Voltage Rating: 250V; Supplier 1: Digi-Key; Supplier Part Number 1: 732-5315-ND; RoHS: RoHS Compliant; Category: Connectors, Interconnects; Stock 1: 16833; Pricing 1: 1=0.13, 10=0.106, 25=0.088, 50=0.074, 100=0.067, 1000=0.061 (USD); Packaging: Bulk; Part Status: Active; Connector Type: Header; Contact Type: Male Pin; Number of Rows: 1; Row Spacing - Mating: -; Mounting Type: Through Hole; Termination: Solder; Fastening Type: -; Insulation Height: 0.100" (2.54mm); Contact Shape: Square; Contact Finish - Mating: Gold; Contact Finish Thickness - Mating: -; Contact Finish - Post: -; Contact Material: Copper Alloy; Insulation Material: Polybutylene Terephthalate (PBT); Features: -; Operating Temperature: -40°C ~ 125°C; Ingress Protection: -; Insulation Color: Black; Mated Stacking Heights: -; Contact Finish Thickness - Post: -; Applications: -; ComponentLink1URL: http://katalog.we-online.de/em/datasheet/6130xx11121.pdf; ComponentLink1Description: http://katalog.we-online.de/em/datasheet/6130xx11121.pdf
footprint HEADER_X2
pins: 1, 2

## M02PTH_SCKT
designator JP?  (value not drawn)
2 Pin Header Socket; Manufacturer: Preci-Dip; Manufacturer Part Number: 801-87-002-10-001101; Number of Positions: 2; Number of Positions Loaded: All; Pitch: 0.100" (2.54mm); Supplier 1: Digi-Key; Supplier Part Number 1: 1212-1179-ND; RoHS: RoHS Compliant; Category: Connectors, Interconnects; Stock 1: 5815; Pricing 1: 1=0.26, 10=0.247, 100=0.1716, 500=0.14518, 1000=0.11878, 5000=0.10558, 10000=0.09569 (USD); Packaging: Bulk; Part Status: Active; Connector Type: Socket; Contact Type: Female Socket; Number of Rows: 1; Row Spacing: -; Mounting Type: Through Hole; Termination: Solder; Fastening Type: -; Features: -; Contact Finish: Gold; Contact Finish Thickness: Flash; Color: Black; ComponentLink1URL: http://www.precidip.com/AppHost/9696,1/Scripts/Modules/Catalog/Default.aspx?c=7&i=310&p=107&pdf=1&dsku=801-PP-NNN-10-001101; ComponentLink1Description: http://www.precidip.com/AppHost/9696,1/Scripts/Modules/Catalog/Default.aspx?c=7&i=310&p=107&pdf=1&dsku=801-PP-NNN-10-001101
footprint 1X02-SCKT
pins: 1, 2

## M02X2PTH_SCKT
designator JP?, comment M02X2PTH-SCKT  (value not drawn)
2X2 Pin Header Socket; Manufacturer: Preci-Dip; Manufacturer Part Number: 803-87-004-10-001101; Style: Board to Board; Number of Positions: 4; Number of Positions Loaded: All; Pitch - Mating: 0.100" (2.54mm); Contact Length - Post: 0.118" (3.00mm); Material Flammability Rating: UL94 V-0; Current Rating: 3A; Supplier 1: Digi-Key; Supplier Part Number 1: 1212-1227-ND; RoHS: RoHS Compliant; Category: Connectors, Interconnects; Stock 1: 40; Pricing 1: 1=0.42, 10=0.396, 100=0.3036, 500=0.26398, 1000=0.21778, 5000=0.19139, 10000=0.17819 (USD); Packaging: Bulk; Part Status: Active; Connector Type: Socket; Contact Type: Female Socket; Number of Rows: 2; Row Spacing - Mating: 0.100" (2.54mm); Mounting Type: Through Hole; Termination: Solder; Fastening Type: Push-Pull; Contact Finish - Mating: Gold; Contact Finish Thickness - Mating: Flash; Insulation Color: Black; Insulation Height: 0.276" (7.00mm); Operating Temperature: -55°C ~ 125°C; Contact Finish - Post: Tin; Mated Stacking Heights: -; Ingress Protection: -; Features: -; Voltage Rating: -; Applications: -; Insulation Material: Polycyclohexylenedimethylene Terephthalate (PCT), Polyester, Glass Filled; Contact Shape: Circular; Contact Material: Beryllium Copper; Contact Finish Thickness - Post: -; ComponentLink1URL: http://www.precidip.com/AppHost/9696,1/Scripts/Modules/Catalog/Default.aspx?c=7&i=391&p=108&pdf=1&dsku=803-PP-NNN-10-001101; ComponentLink1Description: http://www.precidip.com/AppHost/9696,1/Scripts/Modules/Catalog/Default.aspx?c=7&i=391&p=108&pdf=1&dsku=803-PP-NNN-10-001101
footprint 2X2-SCKT
pins: 1, 2, 3, 4

## M03PTH
designator JP?  (value not drawn)
3 Pin Header
footprint 1X03
pins: 1, 2, 3

## M03PTH_SCKT
designator JP?  (value not drawn)
3 Pin Header Socket; Manufacturer: Preci-Dip; Manufacturer Part Number: 801-87-003-10-001101; Number of Positions: 3; Number of Positions Loaded: All; Pitch: 0.100" (2.54mm); Supplier 1: Digi-Key; Supplier Part Number 1: 1212-1180-ND; RoHS: RoHS Compliant; Category: Connectors, Interconnects; Stock 1: 2566; Pricing 1: 1=0.37, 10=0.347, 100=0.2426, 500=0.20798, 1000=0.17332, 5000=0.14856, 10000=0.13866 (USD); Packaging: Bulk; Part Status: Active; Connector Type: Socket; Contact Type: Female Socket; Number of Rows: 1; Row Spacing: -; Mounting Type: Through Hole; Termination: Solder; Fastening Type: -; Features: -; Contact Finish: Gold; Contact Finish Thickness: Flash; Color: Black; ComponentLink1URL: http://www.precidip.com/AppHost/9696,1/Scripts/Modules/Catalog/Default.aspx?c=7&i=310&p=107&pdf=1&dsku=801-PP-NNN-10-001101; ComponentLink1Description: http://www.precidip.com/AppHost/9696,1/Scripts/Modules/Catalog/Default.aspx?c=7&i=310&p=107&pdf=1&dsku=801-PP-NNN-10-001101
footprint 1X03-SCKT
pins: 1, 2, 3

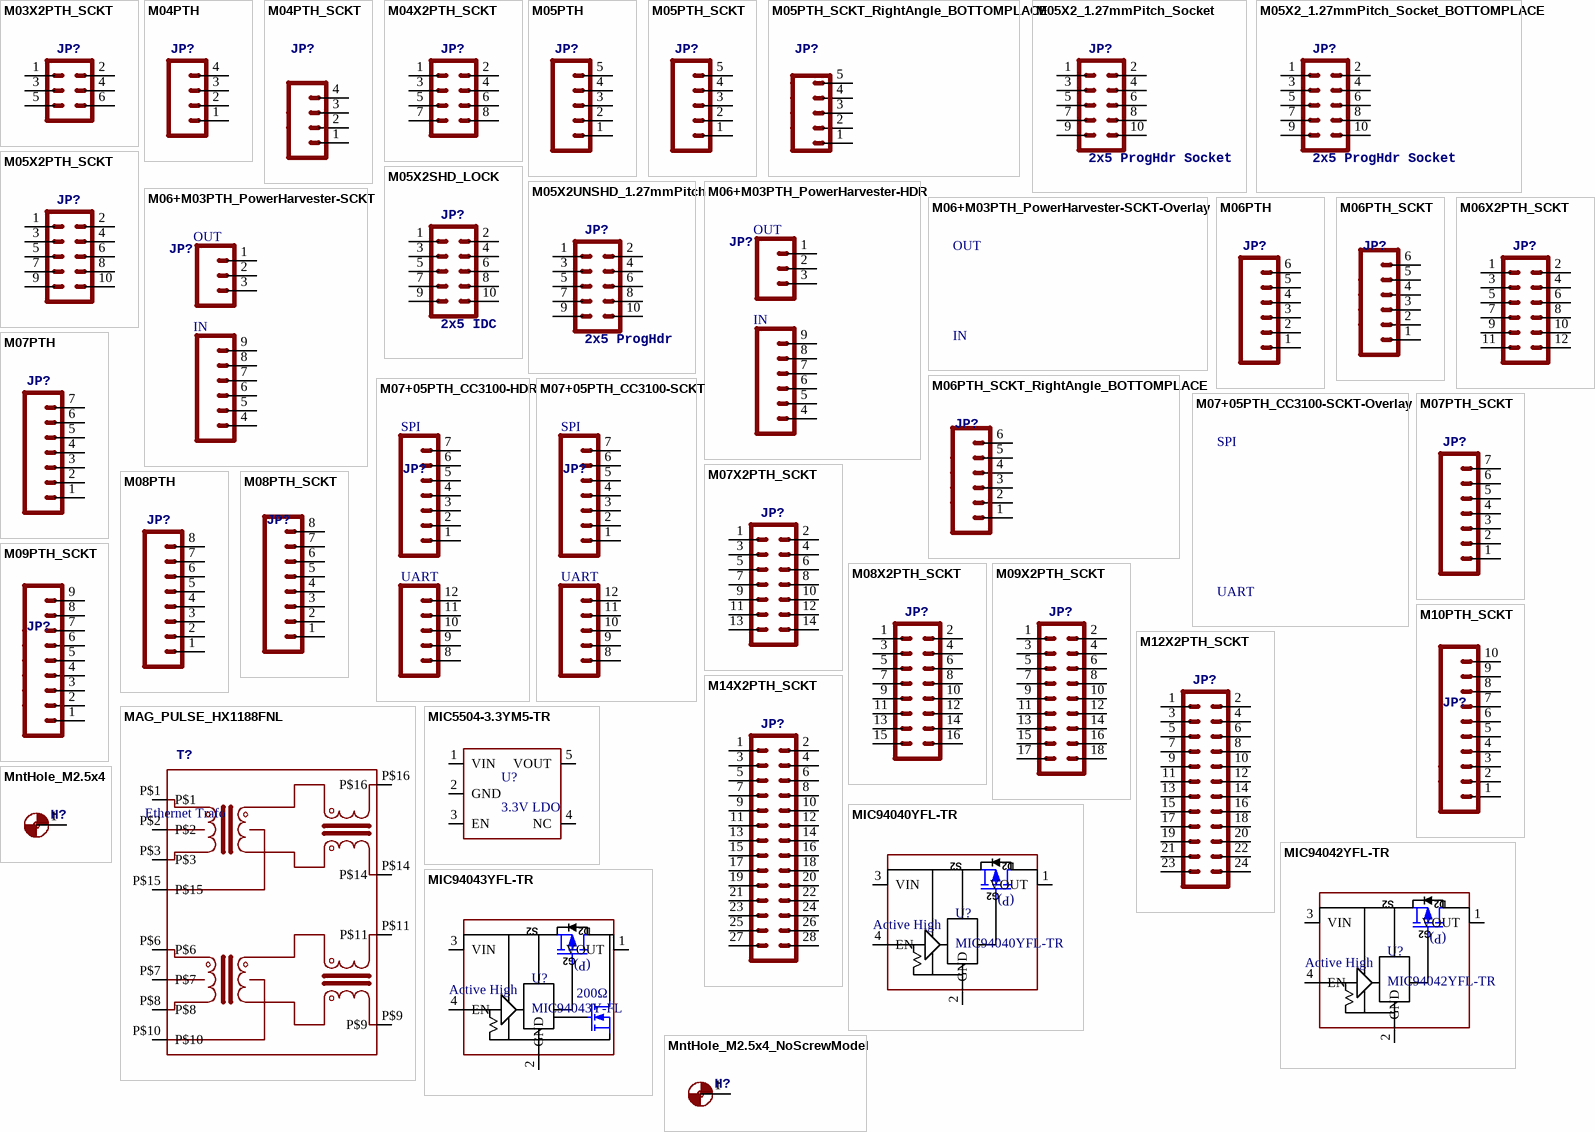
[diagram p2: symbols M03X2PTH_SCKT to MntHole_M2.5x4_NoScrewModel]

## M03X2PTH_SCKT
designator JP?, comment M03X2PTH-SCKT  (value not drawn)
2X3 Pin Header Socket; Manufacturer: Preci-Dip; Manufacturer Part Number: 803-87-006-10-001101; Style: Board to Board; Number of Positions: 6; Number of Positions Loaded: All; Pitch - Mating: 0.100" (2.54mm); Contact Length - Post: 0.118" (3.00mm); Material Flammability Rating: UL94 V-0; Current Rating: 3A; Supplier 1: Digi-Key; Supplier Part Number 1: 1212-1229-ND; RoHS: RoHS Compliant; Category: Connectors, Interconnects; Stock 1: 2275; Pricing 1: 1=0.63, 10=0.594, 100=0.4554, 500=0.39596, 1000=0.32667, 5000=0.28707, 10000=0.26727 (USD); Packaging: Bulk; Part Status: Active; Connector Type: Socket; Contact Type: Female Socket; Number of Rows: 2; Row Spacing - Mating: 0.100" (2.54mm); Mounting Type: Through Hole; Termination: Solder; Fastening Type: Push-Pull; Contact Finish - Mating: Gold; Contact Finish Thickness - Mating: Flash; Insulation Color: Black; Insulation Height: 0.276" (7.00mm); Operating Temperature: -55°C ~ 125°C; Contact Finish - Post: Tin; Mated Stacking Heights: -; Ingress Protection: -; Features: -; Voltage Rating: -; Applications: -; Insulation Material: Polycyclohexylenedimethylene Terephthalate (PCT), Polyester, Glass Filled; Contact Shape: Circular; Contact Material: Beryllium Copper; Contact Finish Thickness - Post: -; ComponentLink1URL: http://www.precidip.com/AppHost/9696,1/Scripts/Modules/Catalog/Default.aspx?c=7&i=391&p=108&pdf=1&dsku=803-PP-NNN-10-001101; ComponentLink1Description: http://www.precidip.com/AppHost/9696,1/Scripts/Modules/Catalog/Default.aspx?c=7&i=391&p=108&pdf=1&dsku=803-PP-NNN-10-001101
footprint 2X3-SCKT
pins: 1, 2, 3, 4, 5, 6

## M04PTH
designator JP?  (value not drawn)
4 Pin Header
footprint 1X04
pins: 1, 2, 3, 4

## M04PTH_SCKT
designator JP?  (value not drawn)
4 Pin Header Socket; Manufacturer: Preci-Dip; Manufacturer Part Number: 801-87-004-10-001101; Number of Positions: 4; Number of Positions Loaded: All; Pitch: 0.100" (2.54mm); Supplier 1: Digi-Key; Supplier Part Number 1: 1212-1181-ND; RoHS: RoHS Compliant; Category: Connectors, Interconnects; Stock 1: 1275; Pricing 1: 1=0.45, 10=0.429, 100=0.3001, 500=0.25726, 1000=0.21438, 5000=0.18375, 10000=0.1715 (USD); Packaging: Bulk; Part Status: Active; Connector Type: Socket; Contact Type: Female Socket; Number of Rows: 1; Row Spacing: -; Mounting Type: Through Hole; Termination: Solder; Fastening Type: -; Features: -; Contact Finish: Gold; Contact Finish Thickness: Flash; Color: Black; ComponentLink1URL: http://www.precidip.com/AppHost/9696,1/Scripts/Modules/Catalog/Default.aspx?c=7&i=310&p=107&pdf=1&dsku=801-PP-NNN-10-001101; ComponentLink1Description: http://www.precidip.com/AppHost/9696,1/Scripts/Modules/Catalog/Default.aspx?c=7&i=310&p=107&pdf=1&dsku=801-PP-NNN-10-001101
footprint 1X04-SCKT
pins: 1, 2, 3, 4

## M04X2PTH_SCKT
designator JP?, comment M04X2PTH-SCKT  (value not drawn)
2X4 Pin Header Socket; Manufacturer: Preci-Dip; Manufacturer Part Number: 803-87-008-10-001101; Number of Positions: 8; Number of Positions Loaded: All; Pitch: 0.100" (2.54mm); Supplier 1: Digi-Key; Supplier Part Number 1: 1212-1231-ND; RoHS: RoHS Compliant; Category: Connectors, Interconnects; Stock 1: 973; Pricing 1: 1=0.78, 10=0.735, 100=0.5633, 500=0.4898, 1000=0.40409, 5000=0.35511, 10000=0.33062 (USD); Packaging: Bulk; Part Status: Active; Connector Type: Socket; Contact Type: Female Socket; Number of Rows: 2; Row Spacing: 0.100" (2.54mm); Mounting Type: Through Hole; Termination: Solder; Fastening Type: -; Features: -; Contact Finish: Gold; Contact Finish Thickness: Flash; Color: Black; ComponentLink1URL: http://www.precidip.com/AppHost/9696,1/Scripts/Modules/Catalog/Default.aspx?c=7&i=391&p=108&pdf=1&dsku=803-PP-NNN-10-001101; ComponentLink1Description: http://www.precidip.com/AppHost/9696,1/Scripts/Modules/Catalog/Default.aspx?c=7&i=391&p=108&pdf=1&dsku=803-PP-NNN-10-001101
footprint 2X4-SCKT
pins: 1, 2, 3, 4, 5, 6, 7, 8

## M05PTH
designator JP?  (value not drawn)
5 Pin Header
footprint 1X05
pins: 1, 2, 3, 4, 5

## M05PTH_SCKT
designator JP?, comment M05PTH-SCKT  (value not drawn)
5 Pin Header Socket; Manufacturer: Preci-Dip; Manufacturer Part Number: 801-87-005-10-001101; Number of Positions: 5; Number of Positions Loaded: All; Pitch: 0.100" (2.54mm); RoHS: RoHS Compliant; Category: Connectors, Interconnects; Packaging: Bulk; Part Status: Active; Connector Type: Socket; Contact Type: Female Socket; Number of Rows: 1; Row Spacing: -; Mounting Type: Through Hole; Termination: Solder; Fastening Type: -; Features: -; Contact Finish: Gold; Contact Finish Thickness: Flash; Color: Black; ComponentLink1URL: http://www.precidip.com/AppHost/9696,1/Scripts/Modules/Catalog/Default.aspx?c=7&i=310&p=107&pdf=1&dsku=801-PP-NNN-10-001101; ComponentLink1Description: http://www.precidip.com/AppHost/9696,1/Scripts/Modules/Catalog/Default.aspx?c=7&i=310&p=107&pdf=1&dsku=801-PP-NNN-10-001101; Supplier 1: Digi-Key; Supplier Part Number 1: 1212-1183-ND; Stock 1: 2429; Pricing 1: 1=0.49, 10=0.459, 100=0.3521, 500=0.3062, 1000=0.25262, 5000=0.222, 10000=0.20669 (USD)
footprint 1X05-SCKT
pins: 1, 2, 3, 4, 5

## M05PTH_SCKT_RightAngle_BOTTOMPLACE
designator JP?, comment M05PTH_SCKT_RightAngle_BOTTOM  (value not drawn)
5 Pin Header Socket, Bottom Placement; Manufacturer: Preci-Dip; Manufacturer Part Number: 801-87-005-20-001101; Style: Board to Board; Number of Positions: 5; Number of Positions Loaded: All; Pitch - Mating: 0.100" (2.54mm); Contact Length - Post: 0.126" (3.20mm); Material Flammability Rating: UL94 V-0; Current Rating: 3A; Supplier 1: Digi-Key; Supplier Part Number 1: 1212-1185-ND; RoHS: RoHS Compliant; Category: Connectors, Interconnects; Stock 1: 1624; Pricing 1: 1=0.72, 10=0.679, 100=0.5208, 500=0.45288, 1000=0.37363, 5000=0.32834, 10000=0.30569 (USD); Packaging: Bulk; Part Status: Active; Connector Type: Socket; Contact Type: Female Socket; Number of Rows: 1; Row Spacing - Mating: -; Mounting Type: Through Hole, Right Angle; Termination: Solder; Fastening Type: Push-Pull; Contact Finish - Mating: Gold; Contact Finish Thickness - Mating: Flash; Insulation Color: Black; Insulation Height: 0.100" (2.54mm); Operating Temperature: -55°C ~ 125°C; Contact Finish - Post: Tin; Mated Stacking Heights: -; Ingress Protection: -; Features: -; Voltage Rating: -; Applications: -; Insulation Material: Polycyclohexylenedimethylene Terephthalate (PCT), Polyester, Glass Filled; Contact Shape: Circular; Contact Material: Beryllium Copper; Contact Finish Thickness - Post: -; ComponentLink1URL: http://www.precidip.com/AppHost/9696,1/Scripts/Modules/Catalog/Default.aspx?c=7&i=223&p=86&pdf=1&dsku=801-PP-NNN-20-001101; ComponentLink1Description: http://www.precidip.com/AppHost/9696,1/Scripts/Modules/Catalog/Default.aspx?c=7&i=223&p=86&pdf=1&dsku=801-PP-NNN-20-001101
footprint 1X05-SCKT_RightAngle_BottomPlace
pins: 1, 2, 3, 4, 5

## M05X2_1.27mmPitch_Socket
designator JP?, comment 2x5 ProgHdr Socket
2x5 Pin 1.27mmPitch ProgHdr Socket; Manufacturer: Amphenol FCI; Manufacturer Part Number: 20021311-00010T4LF; Current Rating: 1 A; Mounting Angle: Vertical; Number of Positions: 10 Position; Voltage Rating: 125 V; Pitch: 1.27 mm; Insulation Resistance: 1000 MOhms; Supplier 1: Mouser; Supplier Part Number 1: 649-221311-00010T4LF; RoHS: RoHS Compliant; Category: Headers & Wire Housings; Stock 1: 817; Pricing 1: 1=0.810, 10=0.717, 100=0.619, 250=0.562, 500=0.506, 1000=0.450, 2500=0.408, 5000=0.394, 10000=0.374 (USD); Contact Plating: Gold; Housing Material: Thermoplastic; Number of Rows: 2 Row; Operating Temperature Range: - 55 C to + 125 C; Packaging: Tube; Product: Headers; Series: Minitek 127; Termination Style: Through Hole; Type: Receptacle Housing; Brand: Amphenol FCI; Contact Material: Copper Alloy; Flammability Rating: UL 94 V-0; Mounting Style: -; Row Spacing: 1.27 mm; Contact Gender: Socket (Female); Standard Pack Qty: 86; Termination Post Length: 2.4 mm; RoHS - Mouser: Y; Minimum Order Quantity: 1; Reeling: False; ComponentLink1URL: http://www.mouser.com/ds/2/18/20021311-974469.pdf; ComponentLink1Description: http://www.mouser.com/ds/2/18/20021311-974469.pdf
footprint 2x5_1.27mm_Unshrd_ProgHeader_Socket (Smaller 1.27mm pitch Programming Header Socket)
pins: 1, 2, 3, 4, 5, 6, 7, 8, 9, 10

## M05X2_1.27mmPitch_Socket_BOTTOMPLACE
designator JP?, comment 2x5 ProgHdr Socket
2x5 Pin 1.27mmPitch ProgHdr Socket, BOTTOMPLACE; Manufacturer: Amphenol FCI; Manufacturer Part Number: 20021311-00010T4LF; Current Rating: 1 A; Mounting Angle: Vertical; Number of Positions: 10 Position; Voltage Rating: 125 V; Pitch: 1.27 mm; Insulation Resistance: 1000 MOhms; Supplier 1: Mouser; Supplier Part Number 1: 649-221311-00010T4LF; RoHS: RoHS Compliant; Category: Headers & Wire Housings; Stock 1: 817; Pricing 1: 1=0.810, 10=0.717, 100=0.619, 250=0.562, 500=0.506, 1000=0.450, 2500=0.408, 5000=0.394, 10000=0.374 (USD); Contact Plating: Gold; Housing Material: Thermoplastic; Number of Rows: 2 Row; Operating Temperature Range: - 55 C to + 125 C; Packaging: Tube; Product: Headers; Series: Minitek 127; Termination Style: Through Hole; Type: Receptacle Housing; Brand: Amphenol FCI; Contact Material: Copper Alloy; Flammability Rating: UL 94 V-0; Mounting Style: -; Row Spacing: 1.27 mm; Contact Gender: Socket (Female); Standard Pack Qty: 86; Termination Post Length: 2.4 mm; RoHS - Mouser: Y; Minimum Order Quantity: 1; Reeling: False; ComponentLink1URL: http://www.mouser.com/ds/2/18/20021311-974469.pdf; ComponentLink1Description: http://www.mouser.com/ds/2/18/20021311-974469.pdf
footprint 2x5_1.27mm_Unshrd_ProgHeader_Socket - BOTTOMPLACE (Smaller 1.27mm pitch Programming Header Socket)
pins: 1, 2, 3, 4, 5, 6, 7, 8, 9, 10

## M05X2PTH_SCKT
designator JP?, comment M05X2PTH-SCKT  (value not drawn)
2X5 Pin Header Socket; Manufacturer: Preci-Dip; Manufacturer Part Number: 803-87-010-10-001101; Number of Positions: 10; Number of Positions Loaded: All; Pitch: 0.100" (2.54mm); Supplier 1: Digi-Key; Supplier Part Number 1: 1212-1234-ND; RoHS: RoHS Compliant; Category: Connectors, Interconnects; Stock 1: 486; Pricing 1: 1=0.89, 10=0.781, 100=0.6734, 500=0.55098, 1000=0.48976, 5000=0.42854, 10000=0.40711 (USD); Packaging: Bulk; Part Status: Active; Connector Type: Socket; Contact Type: Female Socket; Number of Rows: 2; Row Spacing: 0.100" (2.54mm); Mounting Type: Through Hole; Termination: Solder; Fastening Type: -; Features: -; Contact Finish: Gold; Contact Finish Thickness: Flash; Color: Black; ComponentLink1URL: http://www.precidip.com/AppHost/9696,1/Scripts/Modules/Catalog/Default.aspx?c=7&i=391&p=108&pdf=1&dsku=803-PP-NNN-10-001101; ComponentLink1Description: http://www.precidip.com/AppHost/9696,1/Scripts/Modules/Catalog/Default.aspx?c=7&i=391&p=108&pdf=1&dsku=803-PP-NNN-10-001101
footprint 2X5-SCKT
pins: 1, 2, 3, 4, 5, 6, 7, 8, 9, 10